# Altium footprint library SOT.PcbLib: 25 footprints (part 2 of 2)
Each footprint in its own frame and in the unit in brackets; x right, y up, seen from the top. Pads: shape width x height; smd on the part's side, far side on the other; paste and mask are expansions set on the pad; w line width, h text height; cw(c..) or ccw(c..) is an arc to the next point about the centre after c.
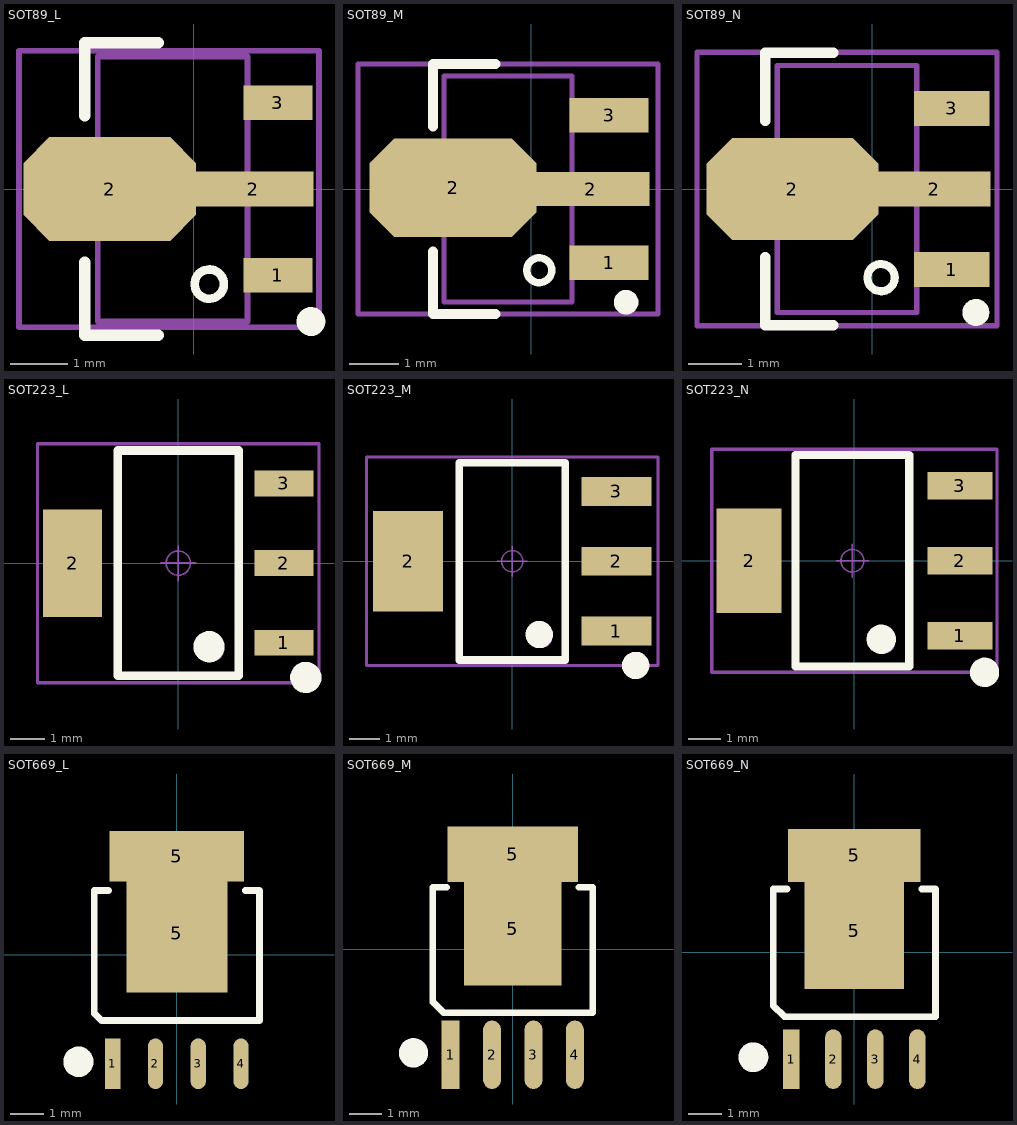
[diagram p1: the footprints below, top view; thin cyan lines are the x and y axes]

## SOT89_L [mm] "4.6x4.3x1.6mm(长宽高)"
height 1.6
pads (4):
  rect 1.2x0.6 smd: 1(1.46,-1.5) 3(1.46,1.5)
  oct 3x1.8 smd: 2(-1.46,0)
  rect 2.1x0.6 smd: 2(1.03,0)
Top Overlay:
  circle w0.25: c2.033,-2.3 r0.125
  circle w0.15: c0.268,-1.651 r0.254
  lines w0.2: -1.891,-1.27 -1.891,-2.54 -0.621,-2.54 ; -1.891,1.27 -1.891,2.54 -0.621,2.54
Mechanical 13:
  circle w0.1: c0.268,-1.651 r0.25
  lines w0.1: -1.667,-2.3 -1.667,2.3 0.933,2.3 0.933,-2.3 -1.667,-2.3
Mechanical 15:
  circle w0.05: c-0.367,0 r0.35
  lines w0.05: -0.867,0 0.133,0 ; -0.367,-0.5 -0.367,0.5
  lines w0.1: -3.034,-2.4 -3.034,2.4 2.173,2.4 2.173,-2.4 -3.034,-2.4
3D body "SOT89.STEP": height 1.6, standoff 0.04, extent -2.267,-2.3 2.033,2.3

## SOT89_M [mm] "4.6x4.3x1.6mm(长宽高)"
height 1.6
pads (4):
  rect 1.6x0.7 smd: 1(1.586,-1.5) 3(1.586,1.5)
  oct 3.4x2 smd: 2(-1.586,0.025)
  rect 2.4x0.7 smd: 2(1.208,0)
Top Overlay:
  circle w0.15: c0.167,-1.651 r0.254
  circle w0.25: c1.932,-2.3 r0.125
  lines w0.2: -1.992,-1.27 -1.992,-2.54 -0.722,-2.54 ; -1.992,1.27 -1.992,2.54 -0.722,2.54
Mechanical 13:
  circle w0.1: c0.167,-1.651 r0.25
  lines w0.1: -1.768,-2.3 0.832,-2.3 0.832,2.3 -1.768,2.3 -1.768,-2.3
Mechanical 15:
  circle w0.05: c-0.468,0 r0.35
  lines w0.05: -0.968,0 0.032,0 ; -0.468,-0.5 -0.468,0.5
  lines w0.1: -3.516,-2.54 -3.516,2.54 2.58,2.54 2.58,-2.54 -3.516,-2.54
3D body "SOT89.STEP": height 1.6, standoff 0.04, extent -2.368,-2.3 1.932,2.3

## SOT89_N [mm] "4.6x4.3x1.6mm(长宽高)"
height 1.6
pads (4):
  rect 1.4x0.65 smd: 1(1.484,-1.5) 3(1.484,1.5)
  oct 3.2x1.9 smd: 2(-1.484,0)
  rect 2.1x0.65 smd: 2(1.157,0)
Top Overlay:
  circle w0.25: c1.932,-2.3 r0.125
  circle w0.15: c0.167,-1.651 r0.254
  lines w0.2: -1.992,-1.27 -1.992,-2.54 -0.722,-2.54 ; -1.992,1.27 -1.992,2.54 -0.722,2.54
Mechanical 13:
  circle w0.1: c0.167,-1.651 r0.25
  lines w0.1: -1.768,-2.3 -1.768,2.3 0.832,2.3 0.832,-2.3 -1.768,-2.3
Mechanical 15:
  circle w0.05: c-0.468,0 r0.35
  lines w0.05: -0.968,0 0.032,0 ; -0.468,-0.5 -0.468,0.5
  lines w0.1: -3.262,-2.55 2.326,-2.55 2.326,2.55 -3.262,2.55 -3.262,-2.55
3D body "SOT89.STEP": height 1.6, standoff 0.04, extent -2.368,-2.3 1.932,2.3

## SOT223_L [mm] "6.4x7x1.6mm(长宽高)"
height 1.7
pads (4):
  rect 1.7x0.75 smd: 1(3.048,-2.3) 2(3.048,0) 3(3.048,2.3)
  rect 1.7x3.1 smd: 2(-3.048,0)
Top Overlay:
  circle w0.5: c3.683,-3.302 r0.2
  circle w0.5: c0.889,-2.413 r0.2
  lines w0.25: -1.75,-3.25 -1.75,3.25 1.75,3.25 1.75,-3.25 -1.75,-3.25
Mechanical 13:
  circle w0.1: c1.016,-2.536 r0.25
  lines w0.1: -1.75,-3.25 -1.75,3.25 1.75,3.25 1.75,-3.25 -1.75,-3.25
Mechanical 15:
  circle w0.05: c0,0 r0.35
  lines w0.05: -0.5,0 0.5,0 ; 0,-0.5 0,0.5
  lines w0.1: -4.064,-3.45 -4.064,3.45 4.064,3.45 4.064,-3.45 -4.064,-3.45
3D body "SOT223.STEP": height 1.65, standoff -0.02, extent -3.508,-3.25 3.508,3.25

## SOT223_M [mm] "6.4x7x1.6mm(长宽高)"
height 1.7
pads (4):
  rect 2.3x0.95 smd: 1(3.429,-2.3) 2(3.429,0) 3(3.429,2.3)
  rect 2.3x3.3 smd: 2(-3.429,0)
Top Overlay:
  circle w0.5: c4.064,-3.429 r0.2
  circle w0.5: c0.889,-2.413 r0.2
  lines w0.25: -1.75,-3.25 -1.75,3.25 1.75,3.25 1.75,-3.25 -1.75,-3.25
Mechanical 13:
  circle w0.1: c1.016,-2.536 r0.25
  lines w0.1: -1.75,-3.25 1.75,-3.25 1.75,3.25 -1.75,3.25 -1.75,-3.25
Mechanical 15:
  circle w0.05: c0,0 r0.35
  lines w0.05: -0.5,0 0.5,0 ; 0,-0.5 0,0.5
  lines w0.1: -4.8,-3.429 4.8,-3.429 4.8,3.429 -4.8,3.429 -4.8,-3.429
3D body "SOT223.STEP": height 1.65, standoff -0.02, extent -3.508,-3.25 3.508,3.25

## SOT223_N [mm] "6.4x7x1.6mm(长宽高)"
height 1.7
pads (4):
  rect 2x0.85 smd: 1(3.238,-2.3) 2(3.238,0) 3(3.238,2.3)
  rect 2x3.2 smd: 2(-3.238,0)
Top Overlay:
  circle w0.5: c4,-3.429 r0.2
  circle w0.5: c0.826,-2.413 r0.2
  lines w0.25: -1.813,-3.25 -1.813,3.25 1.686,3.25 1.686,-3.25 -1.813,-3.25
Mechanical 13:
  circle w0.1: c0.953,-2.536 r0.25
  lines w0.1: -1.813,-3.25 1.686,-3.25 1.686,3.25 -1.813,3.25 -1.813,-3.25
Mechanical 15:
  circle w0.05: c-0.064,0 r0.35
  lines w0.05: -0.563,0 0.436,0 ; -0.064,-0.5 -0.064,0.5
  lines w0.1: -4.381,-3.429 4.381,-3.429 4.381,3.429 -4.381,3.429 -4.381,-3.429
3D body "SOT223.STEP": height 1.65, standoff -0.02, extent -3.572,-3.25 3.445,3.25

## SOT669_L [mm] "6mm*4.9mm*1mm(长*宽*高）"
pads (6):
  rect 0.45x1.5 smd: 1(-1.905,-3.234)
  oval 0.45x1.5 smd: 2(-0.635,-3.234) 3(0.635,-3.234) 4(1.905,-3.234)
  rect 3x3.5 smd: 5(0,0.635)
  rect 4x1.5 smd: 5(0,2.921)
Top Overlay:
  circle w0.5: c-2.921,-3.175 r0.2
  lines w0.203: -2.032,1.905 -2.45,1.905 -2.45,-1.741 -2.241,-1.95 2.45,-1.95 2.45,1.905 2.032,1.905
Mechanical 15:
  circle w0.05: c0,0 r0.35
  lines w0.05: -0.5,0 0.5,0 ; 0,-0.5 0,0.5
3D body "SOT669.STEP": height 1.1, standoff -0.01, extent -2.45,-3.022 2.45,3.1

## SOT669_M [mm] "6mm*4.9mm*1mm(长*宽*高）"
pads (6):
  rect 0.55x2.1 smd: 1(-1.905,-3.234)
  oval 0.55x2.1 smd: 2(-0.635,-3.234) 3(0.635,-3.234) 4(1.905,-3.234)
  rect 3x3.5 smd: 5(0,0.635)
  rect 4x1.7 smd: 5(0,2.921)
Top Overlay:
  circle w0.5: c-3.048,-3.175 r0.2
  lines w0.203: -2.032,1.905 -2.45,1.905 -2.45,-1.614 -2.114,-1.95 2.45,-1.95 2.45,1.905 2.032,1.905
Mechanical 15:
  circle w0.05: c0,0 r0.35
  lines w0.05: -0.5,0 0.5,0 ; 0,-0.5 0,0.5
3D body "SOT669.STEP": height 1.1, standoff -0.01, extent -2.45,-3.022 2.45,3.1

## SOT669_N [mm] "6mm*4.9mm*1mm(长*宽*高）"
pads (6):
  rect 0.5x1.8 smd: 1(-1.905,-3.234)
  oval 0.5x1.8 smd: 2(-0.635,-3.234) 3(0.635,-3.234) 4(1.905,-3.234)
  rect 3x3.5 smd: 5(0,0.635)
  rect 4x1.6 smd: 5(0,2.921)
Top Overlay:
  circle w0.5: c-3.048,-3.175 r0.2
  lines w0.203: -2.032,1.905 -2.45,1.905 -2.45,-1.614 -2.114,-1.95 2.45,-1.95 2.45,1.905 2.032,1.905
Mechanical 15:
  circle w0.05: c0,0 r0.35
  lines w0.05: -0.5,0 0.5,0 ; 0,-0.5 0,0.5
3D body "SOT669.STEP": height 1.1, standoff -0.01, extent -2.45,-3.022 2.45,3.1